# Altium footprint library SOIC127P700X220-4N.PcbLib: 1 footprints
Each footprint in its own frame and in the unit in brackets; x right, y up, seen from the top. Pads: shape width x height; smd on the part's side, far side on the other; paste and mask are expansions set on the pad; w line width, h text height; cw(c..) or ccw(c..) is an arc to the next point about the centre after c.
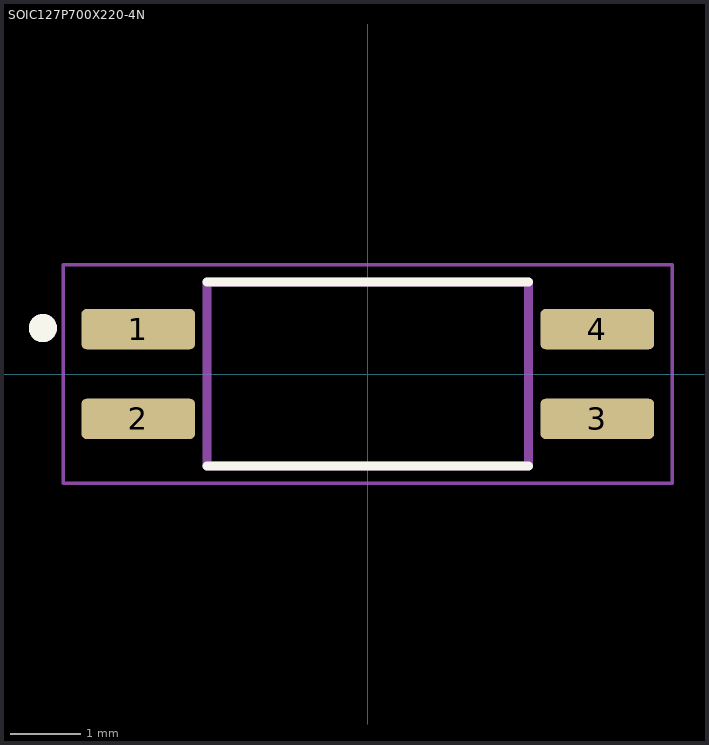
[diagram p0: the footprint, top view; thin cyan lines are the x and y axes]

## SOIC127P700X220-4N [mm]
height 2.2
pads (4):
  rrect25% 1.61x0.57 smd: 1(-3.25,0.635) 2(-3.25,-0.635) 3(3.25,-0.635) 4(3.25,0.635)
Top Overlay:
  circle w0.2: c-4.6,0.65 r0.1
  lines w0.127: -2.275,-1.3 2.275,-1.3 ; -2.275,1.3 2.275,1.3
Mechanical 13:
  circle w0.2: c-4.6,0.65 r0.1
  lines w0.127: -2.275,-1.3 2.275,-1.3 2.275,1.3 -2.275,1.3 -2.275,-1.3
Mechanical 15:
  lines w0.05: -4.31,-1.55 4.31,-1.55 4.31,1.55 -4.31,1.55 -4.31,-1.55
3D body "step_temp.STEP": height 2.3, standoff 0, extent -1.3,-3.5 1.3,3.5